# EAGLE library part PINHD-2X3 (library dpx-pinhead+)
PIN HEADER
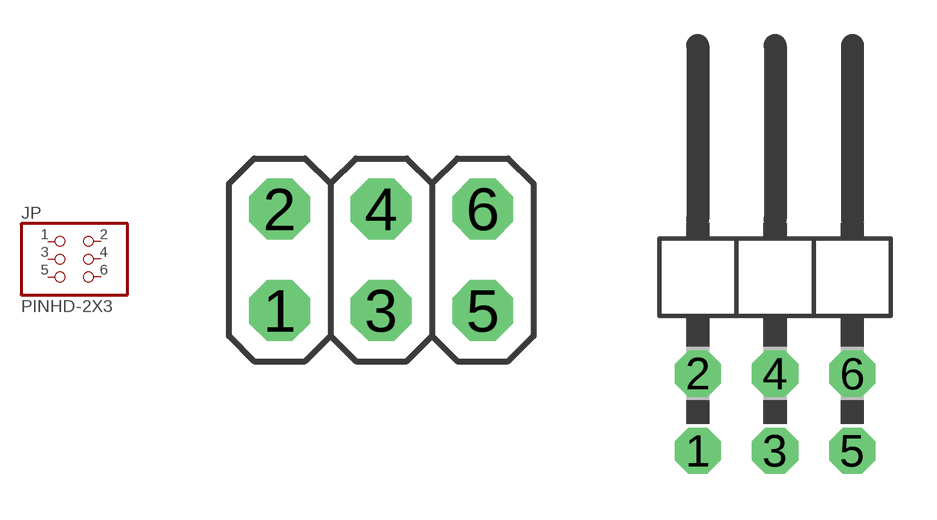
[diagram p33: symbol with the pads of 2X03; footprints 2X03, 2X03/90]

Designator prefix JP

## PINHD-2X3  [2X03]
1  1  pas
2  2  pas
3  3  pas
4  4  pas
5  5  pas
6  6  pas

## PINHD-2X3/90  [2X03/90]
Pads as for 2X03

## PINHD-2X3SMT  [2X03_SMT]
Pads as for 2X03

## Footprint 2X03 (pad centres in mm)
PIN HEADER
drill 1.016 octagon: 1 -2.54,-1.27; 2 -2.54,1.27; 3 0,-1.27; 4 0,1.27; 5 2.54,-1.27; 6 2.54,1.27

## Footprint 2X03/90 (pad centres in mm)
PIN HEADER
drill 1.016 octagon: 1 -2.54,-6.35; 2 -2.54,-3.81; 3 0,-6.35; 4 0,-3.81; 5 2.54,-6.35; 6 2.54,-3.81

## Footprint 2X03_SMT (pad centres in mm)
smd 1.27 x 2.032: 1 -2.54,-2.921; 2 -2.54,2.921; 3 0,-2.921; 4 0,2.921; 5 2.54,-2.921; 6 2.54,2.921